# Altium schematic symbol library Integrated Controller.SCHLIB: 1 symbol
Pins are listed as number, name and electrical type; pins without a type are passive.

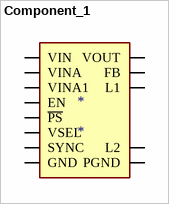
[diagram p0: symbol Component_1]

## Component_1
designator *
pins: A1,A2 VIN, A3 VINA, A4 EN, B1,B2 L1, B3 VINA1, B4 SYNC, C1,C2 PGND, C3,D3,E4 GND, C4 ~{PS}, D1,D2 L2, D4 VSEL, E1,E2 VOUT, E3 FB